# Altium footprint library L SMD.PcbLib: 31 footprints (part 2 of 2)
Each footprint in its own frame and in the unit in brackets; x right, y up, seen from the top. Pads: shape width x height; smd on the part's side, far side on the other; paste and mask are expansions set on the pad; w line width, h text height; cw(c..) or ccw(c..) is an arc to the next point about the centre after c.
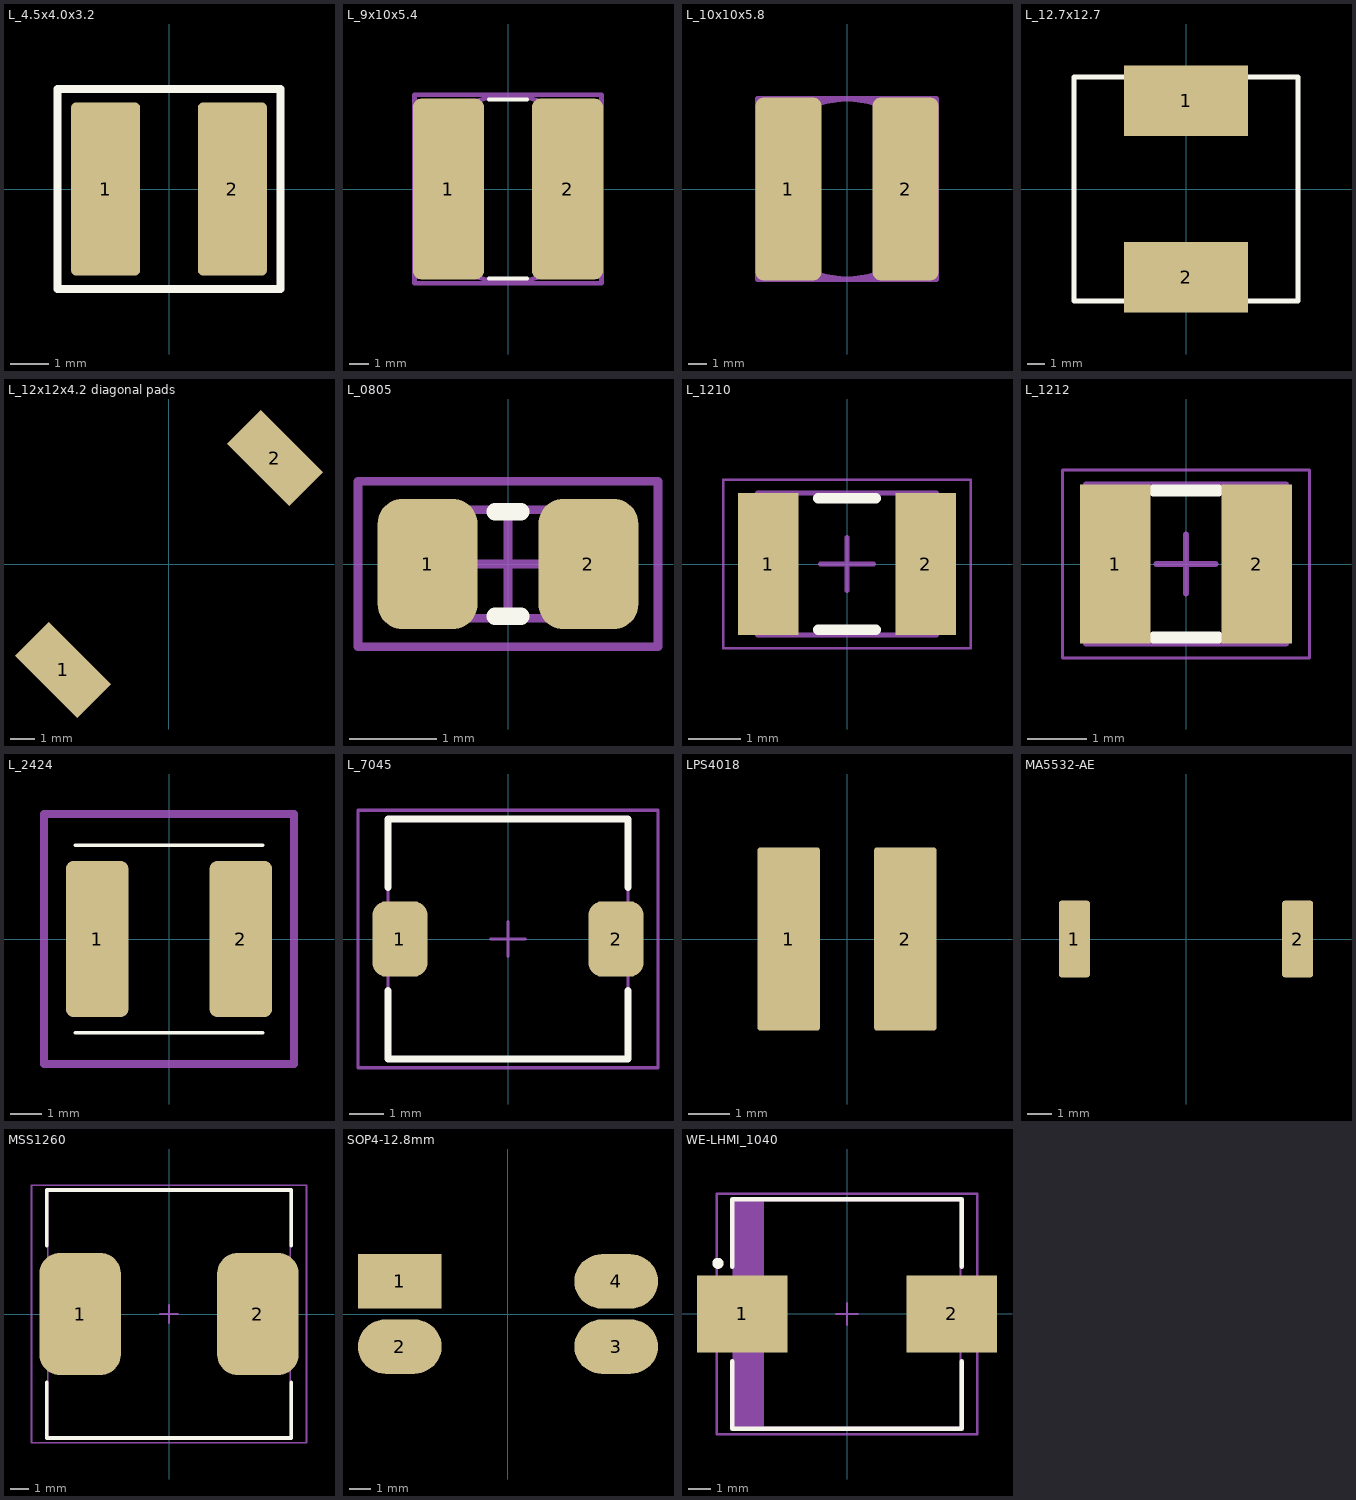
[diagram p1: the footprints below, top view; thin cyan lines are the x and y axes]

## L_4.5x4.0x3.2 [mm] "L_4.5x4.0x3.2"
height 3.2
pads (2):
  rrect15% 1.8x4.5 smd: 1(-1.65,0) 2(1.65,0)
Top Overlay:
  lines w0.2: -2.9,-2.6 2.9,-2.6 2.9,2.6 -2.9,2.6 -2.9,-2.6
3D body: height 3.2, standoff 0, extent -2.191,-2 2.214,2

## L_9x10x5.4 [mm] "L_9x10x5.4 WE-PD2 HV SMD Power Inductor (High Voltage) 1054"
height 5.8
pads (2):
  rrect25% 3.75x9.5 smd: 1(-3.125,0) 2(3.125,0)
Top Overlay:
  lines w0.2: -1,-4.7 1,-4.7 ; -1,4.7 1,4.7
Mechanical 15:
  circle w0.254: c0,0 r4.9
  lines w0.254: -4.9,-4.95 -4.9,4.95 4.9,4.95 4.9,-4.95 -4.9,-4.95
3D body: height 5.8, standoff 0, extent -4.863,-4.9 4.863,4.889

## L_10x10x5.8 [mm] "L_10x10x5.8"
height 5.8
pads (2):
  rrect25% 3.6x10 smd: 1(-3.2,0) 2(3.2,0)
Mechanical 15:
  circle w0.254: c0,0 r4.9
  lines w0.254: -4.9,-4.95 -4.9,4.95 4.9,4.95 4.9,-4.95 -4.9,-4.95
3D body: height 5.8, standoff 0, extent -4.863,-4.9 4.863,4.889

## L_12.7x12.7 [mm] "1000uH SMD"
pads (2):
  rect 7x4 smd: 1(0,5) 2(0,-5)
Top Overlay:
  lines w0.3: -6.35,-6.35 -6.35,6.35 6.35,6.35 6.35,-6.35 -6.35,-6.35
3D body: height 6.5, standoff 0, extent -6.349,-6.349 6.349,6.349

## L_12x12x4.2 diagonal pads [mm] "ELLCTP Panasonic"
pads (2):
  rect 3.6x1.95 smd rot 135: 1(-4.312,-4.312) 2(4.313,4.313)
3D body: height 4.2, standoff 0, extent -6,-6 6,6

## L_0805 [mm] "L_0805"
height 1.25
pads (2):
  rrect50% 1.15x1.5 smd: 1(-0.925,0) 2(0.925,0)
Top Overlay:
  lines w0.2: -0.15,-0.6 0.15,-0.6 ; -0.15,0.6 0.15,0.6
Mechanical 13:
  lines w0.1: -1,-0.625 1,-0.625 1,0.625 -1,0.625 -1,-0.625
Mechanical 15:
  lines w0.1: -0.5,0 0.5,0 ; 0,-0.5 0,0.5 ; -1.725,-0.95 1.725,-0.95 1.725,0.95 -1.725,0.95 -1.725,-0.95
3D body: height 1.44, standoff -0.01, extent -1.09,-0.759 1.09,0.759

## L_1210 [mm] "Chip Resistor, Body 3.2x2.5mm, IPC Medium Density"
height 2.2
pads (2):
  rect 1.15x2.7 smd: 1(-1.5,0) 2(1.5,0)
Top Overlay:
  lines w0.2: -0.55,-1.25 0.55,-1.25 ; -0.55,1.25 0.55,1.25
Mechanical 13:
  lines w0.1: -1.7,-1.35 -1.7,1.35 1.7,1.35 1.7,-1.35 -1.7,-1.35
Mechanical 15:
  lines w0.05: -2.35,-1.6 -2.35,1.6 2.35,1.6 2.35,-1.6 -2.35,-1.6
  lines w0.1: -0.5,0 0.5,0 ; 0,-0.5 0,0.5
3D body: height 0.71, standoff 0, extent -1.698,-1.349 -1.178,1.351
3D body: height 0.71, standoff 0, extent 1.179,-1.351 1.698,1.349
3D body: height 2.1, standoff 0, extent -1.65,-1.25 1.65,1.25

## L_1212 [mm] "Chip Resistor, Body 3x3mm, IPC Medium Density"
height 2.2
pads (2):
  rect 1.2x2.7 smd: 1(-1.2,0) 2(1.2,0)
Top Overlay:
  lines w0.2: -0.55,-1.25 0.55,-1.25 ; -0.55,1.25 0.55,1.25
Mechanical 13:
  lines w0.1: -1.7,-1.35 1.7,-1.35 1.7,1.35 -1.7,1.35 -1.7,-1.35
Mechanical 15:
  lines w0.05: -2.1,-1.6 2.1,-1.6 2.1,1.6 -2.1,1.6 -2.1,-1.6
  lines w0.1: -0.5,0 0.5,0 ; 0,-0.5 0,0.5
3D body: height 0.71, standoff 0, extent 1.179,-1.351 1.698,1.349
3D body: height 0.71, standoff 0, extent -1.698,-1.349 -1.178,1.351
3D body: height 2.1, standoff 0, extent -1.65,-1.25 1.65,1.25

## L_2424 [mm] "L_2424"
height 4
pads (2):
  rrect25% 2x5 smd: 1(-2.3,0) 2(2.3,0)
Top Overlay:
  lines w0.1: -3,-3 3,-3 ; -3,3 3,3
Mechanical 15:
  lines w0.254: -4,-4 -4,4 4,4 4,-4 -4,-4
3D body: height 4.3, standoff 0, extent -3.025,-3 3.025,3

## L_7045 [mm] "Precision Wire Wound Inductor, 2-Leads, Body 7,0x7,0mm, IPC Medium Density"
height 4.5
pads (2):
  rrect50% 1.6x2.2 smd: 1(-3.15,0) 2(3.15,0)
Top Overlay:
  lines w0.2: -3.5,-1.5 -3.5,-3.5 3.5,-3.5 3.5,-1.5 ; -3.5,1.5 -3.5,3.5 3.5,3.5 3.5,1.5
Mechanical 13:
  lines w0.1: -3.5,-3.5 3.5,-3.5 3.5,3.5 -3.5,3.5 -3.5,-3.5
Mechanical 15:
  lines w0.1: -0.5,0 0.5,0 ; 0,-0.5 0,0.5 ; -4.375,-3.75 4.375,-3.75 4.375,3.75 -4.375,3.75 -4.375,-3.75
3D body: height 4.51, standoff -0.1, extent -3.6,-3.5 3.6,3.5

## LPS4018 [mm] "LPS4018"
height 1.7
pads (2):
  rrect10% 1.5x4.4 smd: 1(-1.4,0) 2(1.4,0)
3D body: height 1.8, standoff 0, extent -2.053,-2.053 2.053,2.053

## MA5532-AE [mm] "MA5532-AE"
height 2.6
pads (2):
  rrect20% 1.3x3.2 smd: 1(-4.65,0) 2(4.65,0)
3D body: height 2.58, standoff 0, extent -5.85,-1.75 5.85,1.75

## MSS1260 [mm] "12.3mm X 12.3mm X 6mm"
height 6
pads (2):
  rrect50% 4.4x6.6 smd: 1(-4.8,0) 2(4.8,0)
Top Overlay:
  lines w0.2: -6.6,-3.7 -6.6,-6.7 6.6,-6.7 6.6,-3.7 ; -6.6,3.7 -6.6,6.7 6.6,6.7 6.6,3.7
Mechanical 13:
  lines w0.1: -6.55,-6.7 -6.55,6.7 6.55,6.7 6.55,-6.7 -6.55,-6.7
Mechanical 15:
  lines w0.1: -0.5,0 0.5,0 ; 0,-0.5 0,0.5 ; -7.425,-6.95 -7.425,6.95 7.425,6.95 7.425,-6.95 -7.425,-6.95
3D body: height 6.14, standoff -0.01, extent -6.15,-6.15 6.15,6.15

## SOP4-12.8mm [mm]
pads (4):
  rect 3.85x2.5 smd: 1(-4.975,1.5)
  oval 3.85x2.5 smd: 2(-4.975,-1.5) 3(4.975,-1.5) 4(4.975,1.5)
3D body: height 8, standoff 0, extent -6.25,-6.25 6.25,6.25

## WE-LHMI_1040 [mm]
pads (2):
  rect 4.1x3.5 smd: 1(-4.75,0) 2(4.75,0)
Top Overlay:
  circle w0.25: c-5.85,2.3 r0.125
  lines w0.2: -5.2,-2.15 -5.2,-5.2 5.2,-5.2 5.2,-2.15 ; -5.2,2.15 -5.2,5.2 5.2,5.2 5.2,2.15
Mechanical 13:
  rectangle: -5.15,-5.15 -3.765,5.15
  lines w0.1: -5.15,-5.15 5.15,-5.15 5.15,5.15 -5.15,5.15 -5.15,-5.15
Mechanical 15:
  lines w0.1: -0.5,0 0.5,0 ; 0,-0.5 0,0.5 ; -5.9,-5.45 5.9,-5.45 5.9,5.45 -5.9,5.45 -5.9,-5.45
3D body: height 3.8, standoff 0, extent -5.5,-5 5.5,5